# EAGLE library part EL7182CSZ (library Intersil_By_element14_Batch_1)
2-Phase, High Speed CCD Driver
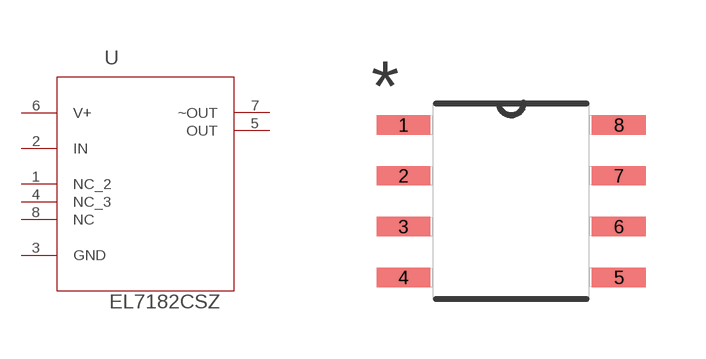
[diagram p70: symbol with the pads of SOIC127P600X173-8N; footprint SOIC127P600X173-8N]

Designator prefix U

## EL7182CSZ (MPN: EL7182CSZ; OC_FARNELL: -; OC_NEWARK: 02M2996; PACKAGE: SOIC-8; SUPPLIER: INTERSIL)  [SOIC127P600X173-8N]
1  NC_2  nc
2  IN  in
3  GND  pas
4  NC_3  nc
5  OUT  out
6  V+  in
7  ~OUT  out
8  NC  nc

## Footprint SOIC127P600X173-8N (pad centres in mm)
smd 1.346 x 0.483: 1 -2.692,1.905; 2 -2.692,0.635; 3 -2.692,-0.635; 4 -2.692,-1.905; 5 2.692,-1.905; 6 2.692,-0.635; 7 2.692,0.635; 8 2.692,1.905